# EAGLE library part MINI-PCIE (library jt-con-molex)
Mini PCI-E card
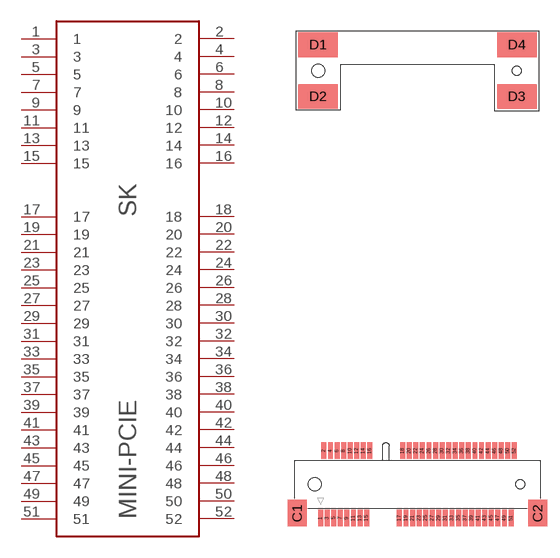
[diagram p0: symbol with the pads of 67910-MINI-PCIE; footprint 67910-MINI-PCIE]

Designator prefix SK

## MINI-PCIE-RAW  [67910-MINI-PCIE]
1  1
2  2
3  3
4  4
5  5
6  6
7  7
8  8
9  9
10  10
11  11
12  12
13  13
14  14
15  15
16  16
17  17
18  18
19  19
20  20
21  21
22  22
23  23
24  24
25  25
26  26
27  27
28  28
29  29
30  30
31  31
32  32
33  33
34  34
35  35
36  36
37  37
38  38
39  39
40  40
41  41
42  42
43  43
44  44
45  45
46  46
47  47
48  48
49  49
50  50
51  51
52  52

## Footprint 67910-MINI-PCIE (pad centres in mm)
67910 Mini PCI-E
smd 0.6 x 2: 1 0,0; 2 0.4,8.2; 3 0.8,0; 4 1.2,8.2; 5 1.6,0; 6 2,8.2; 7 2.4,0; 8 2.8,8.2; 9 3.2,0; 10 3.6,8.2; 11 4,0; 12 4.4,8.2; 13 4.8,0; 14 5.2,8.2; 15 5.6,0; 16 6,8.2; 17 9.6,0; 18 10,8.2; 19 10.4,0; 20 10.8,8.2; 21 11.2,0; 22 11.6,8.2; 23 12,0; 24 12.4,8.2; 25 12.8,0; 26 13.2,8.2; 27 13.6,0; 28 14,8.2; 29 14.4,0; 30 14.8,8.2; 31 15.2,0; 32 15.6,8.2; 33 16,0; 34 16.4,8.2; 35 16.8,0; 36 17.2,8.2; 37 17.6,0; 38 18,8.2; 39 18.4,0; 40 18.8,8.2; 41 19.2,0; 42 19.6,8.2; 43 20,0; 44 20.4,8.2; 45 20.8,0; 46 21.2,8.2; 47 21.6,0; 48 22,8.2; 49 22.4,0; 50 22.8,8.2; 51 23.2,0; 52 23.6,8.2
smd 2.3 x 3.2: C1 -2.85,0.6; C2 26.45,0.6
smd 4.8 x 3: D1 -0.3,57.65; D2 -0.3,51.35; D3 23.9,51.35; D4 23.9,57.65
hole 1.6 at -0.7,4.1
hole 1.1 at 24.3,4.1
hole 1.1 at 23.9,54.5
hole 1.6 at -0.3,54.5